# Altium footprint library SparkFun-DiscreteSemi.PCBLIB: 47 footprints (part 3 of 3)
Each footprint in its own frame and in the unit in brackets; x right, y up, seen from the top. Pads: shape width x height; smd on the part's side, far side on the other; paste and mask are expansions set on the pad; w line width, h text height; cw(c..) or ccw(c..) is an arc to the next point about the centre after c.
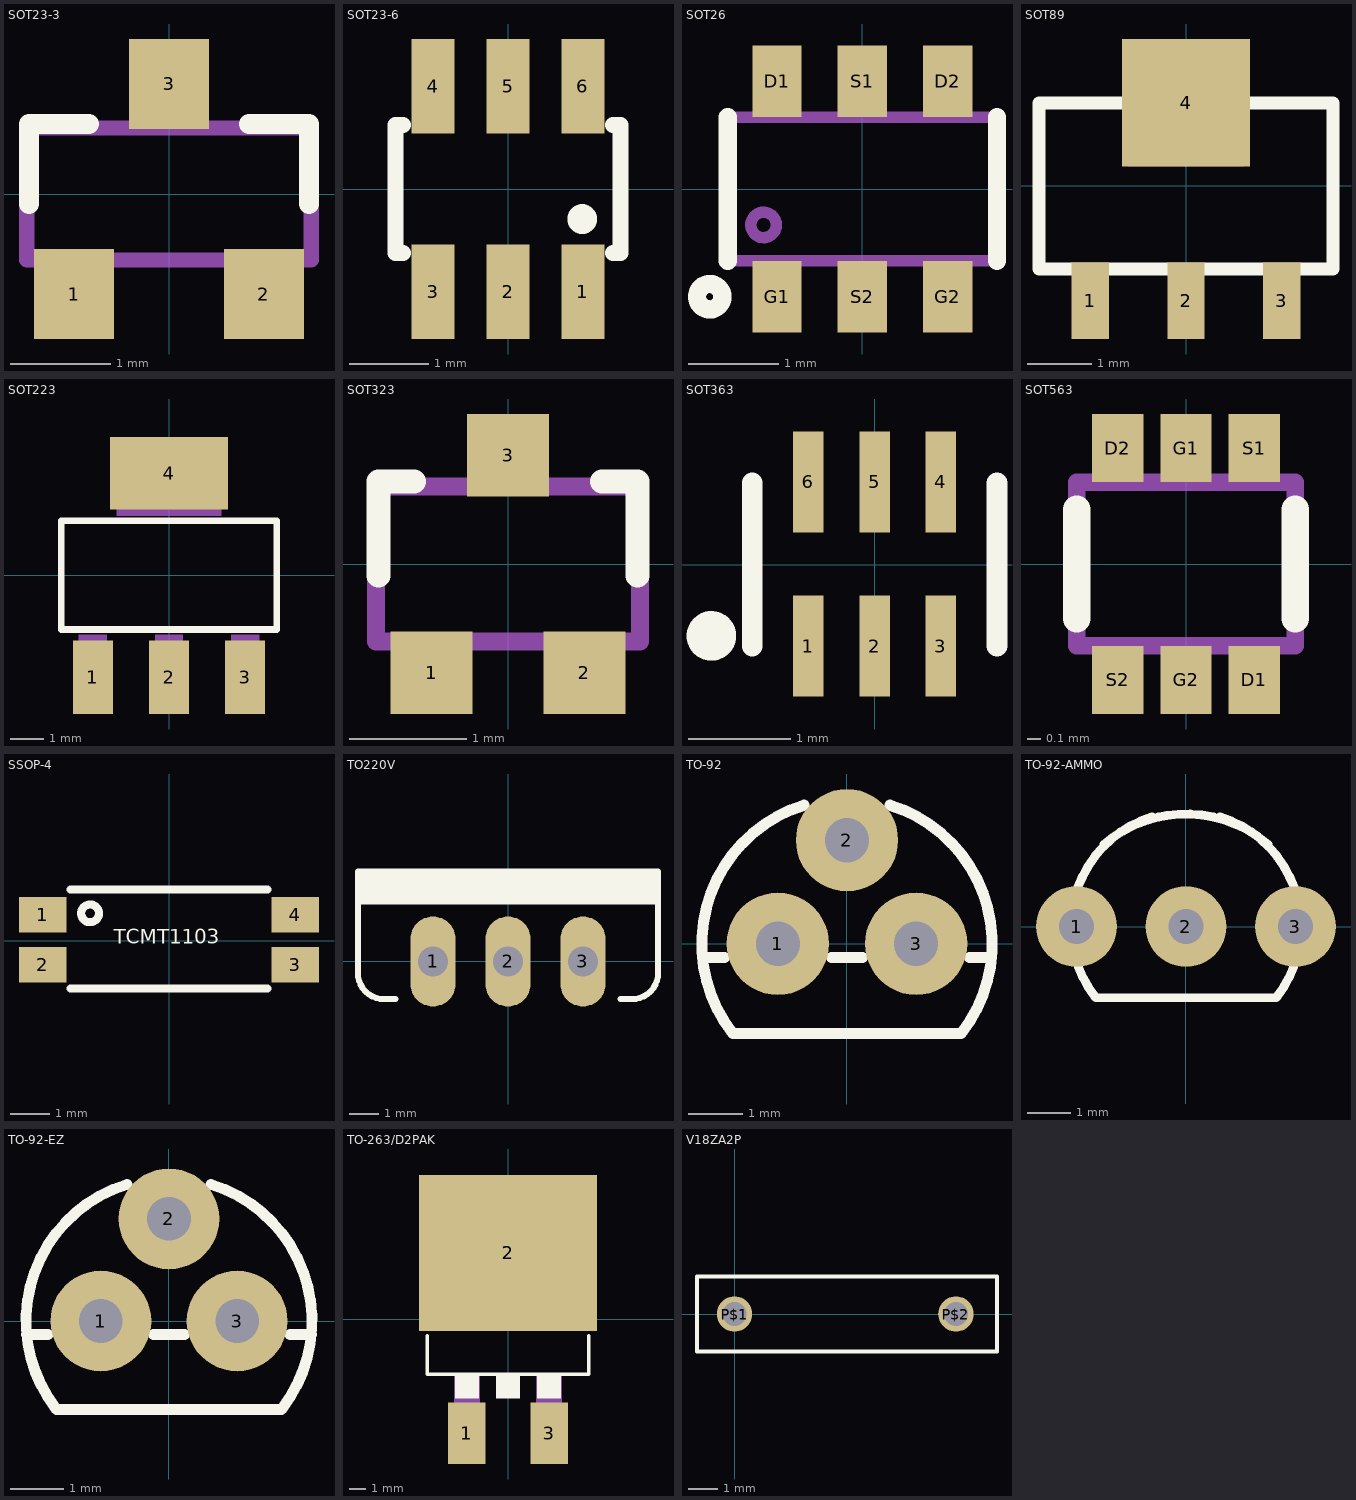
[diagram p2: the footprints below, top view; thin cyan lines are the x and y axes]

## SOT23-3 [mil]
pads (3):
  rect 31.5x35.43 smd: 1(-37.4,-39.37) 2(37.4,-39.37) 3(0,43.31)
Top Overlay:
  lines w8: -55.12,-3.94 -55.12,27.56 -31.5,27.56 ; 31.5,27.56 55.12,27.56 55.12,-3.94
Mechanical 16:
  lines w6: -56,-26 56,-26 56,26 -56,26 -56,-26

## SOT23-6 [mil]
pads (6):
  rect 21.65x47.24 smd: 1(37.4,-51.19) 2(0,-51.19) 3(-37.4,-51.19) 4(-37.4,51.19) 5(0,51.19) 6(37.4,51.19)
Top Overlay:
  circle w12: c37,-15 r1.41
  lines w8: -52.27,-31.91 -56,-31.91 -56,31.91 -52.27,31.91 ; 52.27,-31.91 56,-31.91 56,31.91 52.27,31.91

## SOT26 [mil]
pads (6):
  rect 21.65x31.5 smd: D1(-37.4,47.24) D2(37.4,47.24) G1(-37.4,-47.24) G2(37.4,-47.24) S1(0,47.24) S2(0,-47.24)
Top Overlay:
  circle w8: c-66.93,-47.24 r5.57
  lines w8: -59.06,-31.5 -59.06,31.5 ; 59.06,-31.5 59.06,31.5
Mechanical 16:
  circle w5: c-43.31,-15.75 r5.57
  lines w5: -59.06,-31.5 -59.06,31.5 59.06,31.5 59.06,-31.5 -59.06,-31.5

## SOT89 [mm]
pads (4):
  rect 0.58x1.2 smd: 1(-1.5,-1.8) 2(0,-1.8) 3(1.5,-1.8)
  rect 2x2 smd: 4(0,1.3)
Top Overlay:
  lines w0.203: -2.3,-1.3 2.3,-1.3 2.3,1.3 -2.3,1.3 -2.3,-1.3
Mechanical 16:
  rectangle: -0.915,0.303 0.915,2.157
  rectangle: -1.74,-2.23 -1.26,-1.27
  rectangle: -0.24,-2.23 0.24,-1.27
  rectangle: 1.26,-2.23 1.74,-1.27

## SOT223 [mil]
pads (4):
  rect 48x88 smd: 1(-91,-122) 2(0,-122) 3(91,-122)
  rect 141.73x86.61 smd: 4(0,122.01)
Top Overlay:
  lines w8: -129,-65 129,-65 129,65 -129,65 -129,-65
Mechanical 16:
  rectangle: -63,71 63,144
  rectangle: -17,-144 17,-71
  rectangle: -108,-144 -74,-71
  rectangle: 74,-144 108,-71
  rectangle: -63,71 63,144
  rectangle: -17,-144 17,-71
  rectangle: -108,-144 -74,-71
  rectangle: 74,-144 108,-71

## SOT323 [mm]
pads (3):
  rect 0.7x0.7 smd: 1(-0.65,-0.925) 2(0.65,-0.925) 3(0,0.925)
Top Overlay:
  lines w0.203: -1.1,-0.1 -1.1,0.7 -0.8,0.7 ; 0.8,0.7 1.1,0.7 1.1,-0.1
Mechanical 16:
  lines w0.152: -1.122,-0.66 1.122,-0.66 1.122,0.66 -1.122,0.66 -1.122,-0.66

## SOT363 [mm]
pads (6):
  rect 0.3x0.99 smd: 1(-0.65,-0.8) 2(0,-0.8) 3(0.65,-0.8) 4(0.65,0.81) 5(0,0.81) 6(-0.65,0.81)
Top Overlay:
  circle w0.203: c-1.6,-0.7 r0.141
  lines w0.127: -1.6,-0.7 -1.5,-0.7 -1.5,-0.8
  lines w0.203: -1.2,-0.8 -1.2,0.8 ; 1.2,-0.8 1.2,0.8

## SOT563 [mil]
pads (6):
  rect 14.76x19.69 smd: D1(19.69,-33.46) D2(-19.69,33.46) G1(0,33.46) G2(0,-33.46) S1(19.69,33.46) S2(-19.69,-33.46)
Top Overlay:
  lines w8: -31.5,-15.75 -31.5,15.75 ; 31.5,-15.75 31.5,15.75
Mechanical 16:
  lines w5: -31.5,-23.62 31.5,-23.62 31.5,23.62 -31.5,23.62 -31.5,-23.62

## SSOP-4 [mil]
pads (4):
  rect 47.24x35.43 smd: 1(-125.98,26.38) 2(-125.98,-23.62) 3(125.98,-23.62) 4(125.98,26.38)
Top Overlay:
  circle w8: c-78.74,27.56 r8.85
  lines w8: -98.43,-47.24 98.43,-47.24 ; -98.43,51.18 98.43,51.18
  text "TCMT1103" at -55.12,-7.87 h24.8

## TO220V [mil]
pads (3):
  oval 60x120 hole 40: 1(-100,0) 2(0,0) 3(100,0)
Top Overlay:
  rectangle: -200,80 200,120
  lines w8: -150,-50 -165,-50 cw(c-165.83,-15.83) -200,-15 -200,80 ; 150,-50 165,-50 ccw(c165.83,-15.83) 200,-15 200,80 ; -200,80 200,80 ; -200,80 -200,120 200,120 200,80

## TO-92 [mil]
pads (3):
  round 74 hole 32: 1(-50,0) 2(0,75) 3(50,0)
Top Overlay:
  lines w8: -104.52,-10 -88.73,-10 ; -30.96,100.33 ccw(c0,0) -82.46,-65 82.46,-65 ccw(c0,0) 30.96,100.33 ; -11.27,-10 11.27,-10 ; 88.73,-10 104.52,-10

## TO-92-AMMO [mil]
pads (3):
  round 74 hole 32: 1(-100,0) 2(0,0) 3(100,0)
Top Overlay:
  lines w8: -75,75 cw(c0,-12.5) 25,100 ; -30.96,100.33 ccw(c0,0) -82.46,-65 82.46,-65 ccw(c0,0) 30.96,100.33 ; -25,100 cw(c0,-12.5) 25,100 ; 75,75 ccw(c0,-12.5) 25,100

## TO-92-EZ [mil]
pads (3):
  round 74 hole 32: 1(-50,0) 2(0,75) 3(50,0)
Top Overlay:
  lines w8: -104.52,-10 -88.73,-10 ; -30.96,100.33 ccw(c0,0) -82.46,-65 82.46,-65 ccw(c0,0) 30.96,100.33 ; -11.27,-10 11.27,-10 ; 88.73,-10 104.52,-10
Top Solder:
  circle w0: c0,75 r20
  circle w0: c-50,0 r20
  circle w0: c50,0 r20
Bottom Solder:
  circle w0: c0,75 r40.31
  circle w0: c50,0 r40.31
  circle w0: c-50,0 r40.31

## TO-263/D2PAK [mil]
pads (3):
  rect 91.34x150 smd: 1(-100,-277.36) 3(100,-277.36)
  rect 433.07x379.92 smd: 2(0,162.4)
Top Overlay:
  rectangle: -28.74,-192.91 28.74,-133.86
  rectangle: -128.74,-192.91 -71.26,-133.86
  rectangle: 71.26,-192.91 128.74,-133.86
  lines w8: -196.85,-39.37 -196.85,-133.86 196.85,-133.86 196.85,-39.37
Mechanical 16:
  rectangle: -128.74,-299.21 -71.26,-133.86
  rectangle: 71.26,-299.21 128.74,-133.86
  region: 0,0 10,0 10,10 0,10
  lines w5: -196.85,-25.59 -196.85,246.06 ; 196.85,-25.59 196.85,246.06 ; -128.74,-299.21 -71.26,-299.21 -71.26,-133.86 -128.74,-133.86 -128.74,-299.21 ; 71.26,-299.21 71.26,-133.86 128.74,-133.86 128.74,-299.21 71.26,-299.21

## V18ZA2P [mil]
pads (2):
  round 47.25 hole 31.5: P$1(0,0) P$2(295.28,0)
Top Overlay:
  lines w5: -50,-50 -50,50 350,50 350,-50 -50,-50